# Altium footprint library AltiumLibrary.PcbLib: 85 footprints (part 6 of 6)
Each footprint in its own frame and in the unit in brackets; x right, y up, seen from the top. Pads: shape width x height; smd on the part's side, far side on the other; paste and mask are expansions set on the pad; w line width, h text height; cw(c..) or ccw(c..) is an arc to the next point about the centre after c.
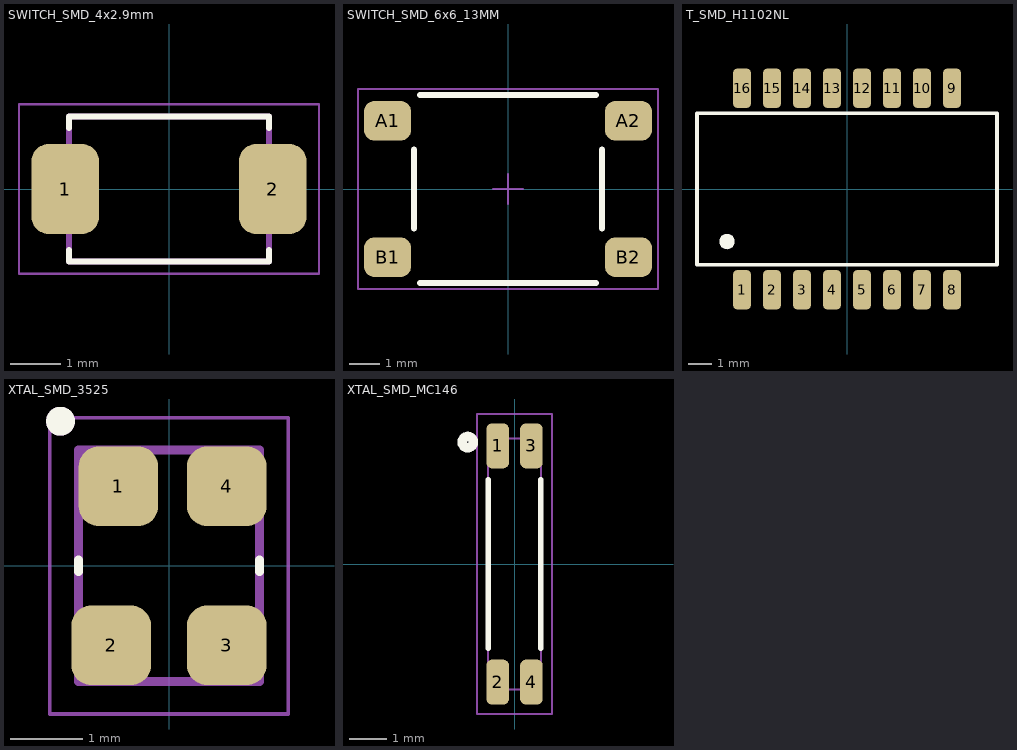
[diagram p5: the footprints below, top view; thin cyan lines are the x and y axes]

## SWITCH_SMD_4x2.9mm [mm]
height 2
pads (2):
  rrect50% 1.35x1.8 smd: 1(-2.075,0) 2(2.075,0)
Top Overlay:
  lines w0.127: -2,-1.22 -2,-1.45 2,-1.45 2,-1.22 ; -2,1.22 -2,1.45 2,1.45 2,1.22
Top Assembly (Mech13):
  lines w0.127: -2,-1.45 2,-1.45 2,1.45 -2,1.45 -2,-1.45
Top Courtyard:
  lines w0.05: -3,-1.7 -3,1.7 3,1.7 3,-1.7 -3,-1.7
3D body "step_temp.STEP": height 2, standoff 0, extent -2.4,-1.45 2.4,1.45

## SWITCH_SMD_6x6_13MM [mm] "SMD Tact Switch, body 6x6 mm, 13mm height"
height 13
pads (4):
  rrect50% 1.55x1.3 smd: A1(-3.975,2.25) A2(3.975,2.25) B1(-3.975,-2.25) B2(3.975,-2.25)
Top Overlay:
  lines w0.2: -3.1,-1.3 -3.1,1.3 ; -2.9,-3.1 2.9,-3.1 ; -2.9,3.1 2.9,3.1 ; 3.1,-1.3 3.1,1.3
Top Courtyard:
  lines w0.05: -0.5,0 0.5,0 ; 0,-0.5 0,0.5 ; -4.95,-3.3 4.95,-3.3 4.95,3.3 -4.95,3.3 -4.95,-3.3
3D body "4301x21308x6.stp": height 13, standoff 0, extent -4.5,-3.1 4.5,3.1

## T_SMD_H1102NL [mm] "350uH 100M LAN Transformer 1:1 Surface Mount-16P,12.7x7mm"
height 5.7
pads (16):
  rrect50% 0.76x1.67 smd paste+0 mask+0.102: 1(-4.445,-4.265) 2(-3.175,-4.265) 3(-1.905,-4.265) 4(-0.635,-4.265) 5(0.635,-4.265) 6(1.905,-4.265) 7(3.175,-4.265) 8(4.445,-4.265) 9(4.445,4.265) 10(3.175,4.265) 11(1.905,4.265) 12(0.635,4.265) 13(-0.635,4.265) 14(-1.905,4.265) 15(-3.175,4.265) 16(-4.445,4.265)
Top Overlay:
  region: -5.047,-1.907 -5.014,-1.912 -4.982,-1.921 -4.951,-1.932 -4.921,-1.948 -4.893,-1.966 -4.868,-1.987 -4.844,-2.01 -4.823,-2.036 -4.805,-2.064 -4.79,-2.093 -4.778,-2.124 -4.769,-2.156 -4.764,-2.189 -4.763,-2.223 -4.764,-2.256 -4.769,-2.289 -4.778,-2.321 -4.79,-2.352 -4.805,-2.381 -4.823,-2.409 -4.844,-2.435 -4.868,-2.458 -4.893,-2.479 -4.921,-2.497 -4.951,-2.513 -4.982,-2.524 -5.014,-2.533 -5.047,-2.538 -5.08,-2.54 -5.113,-2.538 -5.146,-2.533 -5.178,-2.524 -5.209,-2.513 -5.239,-2.497 -5.267,-2.479 -5.292,-2.458 -5.316,-2.435 -5.337,-2.409 -5.355,-2.381 -5.37,-2.352 -5.382,-2.321 -5.391,-2.289 -5.396,-2.256 -5.397,-2.223 -5.396,-2.189 -5.391,-2.156 -5.382,-2.124 -5.37,-2.093 -5.355,-2.064 -5.337,-2.036 -5.316,-2.01 -5.292,-1.987 -5.267,-1.966 -5.239,-1.948 -5.209,-1.932 -5.178,-1.921 -5.146,-1.912 -5.113,-1.907 -5.08,-1.905
  lines w0.152: -6.35,-3.2 6.35,-3.2 6.35,3.2 -6.35,3.2 -6.35,-3.2
3D body "step_temp.STEP": height 5.97, standoff 0, extent -6.35,-4.699 6.35,4.699

## XTAL_SMD_3525 [mm] "SMD Crystal 3.5x2.5x0.7mm"
height 0.7
pads (4):
  rrect50% 1.1x1.1 smd: 1(-0.7,1.1) 2(-0.8,-1.1) 3(0.8,-1.1) 4(0.8,1.1)
Top Overlay:
  circle w0.2: c-1.5,2 r0.1
  lines w0.127: -1.25,-0.08 -1.25,0.08 ; 1.25,-0.08 1.25,0.08
Top Assembly (Mech13):
  circle w0.2: c-1.5,2 r0.1
  lines w0.127: -1.25,-1.6 -1.25,1.6 1.25,1.6 1.25,-1.6 -1.25,-1.6
Top Courtyard:
  lines w0.05: -1.65,-2.05 -1.65,2.05 1.65,2.05 1.65,-2.05 -1.65,-2.05
3D body "step_temp.STEP": height 0.7, standoff 0, extent -1.25,-1.6 1.25,1.6

## XTAL_SMD_MC146 [mm] "MC146 SMD Crystal"
height 1.4
pads (4):
  rrect50% 0.6x1.2 smd: 1(-0.45,3.15) 2(-0.45,-3.15) 3(0.45,3.15) 4(0.45,-3.15)
Top Overlay:
  circle w0.254: c-1.25,3.25 r0.15
  lines w0.152: -0.7,-2.25 -0.7,2.25 ; 0.7,-2.25 0.7,2.25
Top Assembly (Mech13):
  lines w0.05: -0.711,3.343 -0.711,-3.357 -0.711,-3.35 0.7,-3.35 0.7,3.35 -0.711,3.35
Top Courtyard:
  lines w0.05: -1,-4 -1,4 1,4 1,-4 0,-4 -1,-4
3D body "MC-146_EPS.step": height 1.4, standoff 0, extent -0.749,-3.505 0.749,3.505